# Altium footprint library HLK-PM01.PCBLIB: 1 footprints
Each footprint in its own frame and in the unit in brackets; x right, y up, seen from the top. Pads: shape width x height; smd on the part's side, far side on the other; paste and mask are expansions set on the pad; w line width, h text height; cw(c..) or ccw(c..) is an arc to the next point about the centre after c.
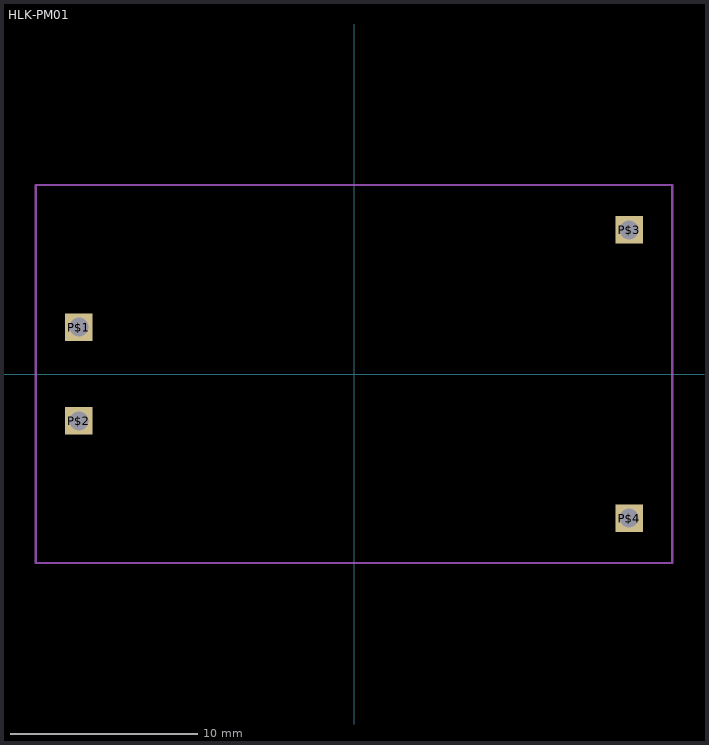
[diagram p0: the footprint, top view; thin cyan lines are the x and y axes]

## HLK-PM01 [mm]
pads (4):
  rect 1.476x1.476 / inner rect 1.524x1.524 / far side rect 1.476x1.476 hole 1.016: P$1(-14.7,2.5) P$2(-14.7,-2.5) P$3(14.7,7.7) P$4(14.7,-7.7)
Mechanical 8:
  lines w0.127: -17,-10.1 17,-10.1 17,10.1 -17,10.1 -17,-10.1